# Altium footprint library JST SM02B-SURS-TF.PCBLIB: 1 footprints
Each footprint in its own frame and in the unit in brackets; x right, y up, seen from the top. Pads: shape width x height; smd on the part's side, far side on the other; paste and mask are expansions set on the pad; w line width, h text height; cw(c..) or ccw(c..) is an arc to the next point about the centre after c.
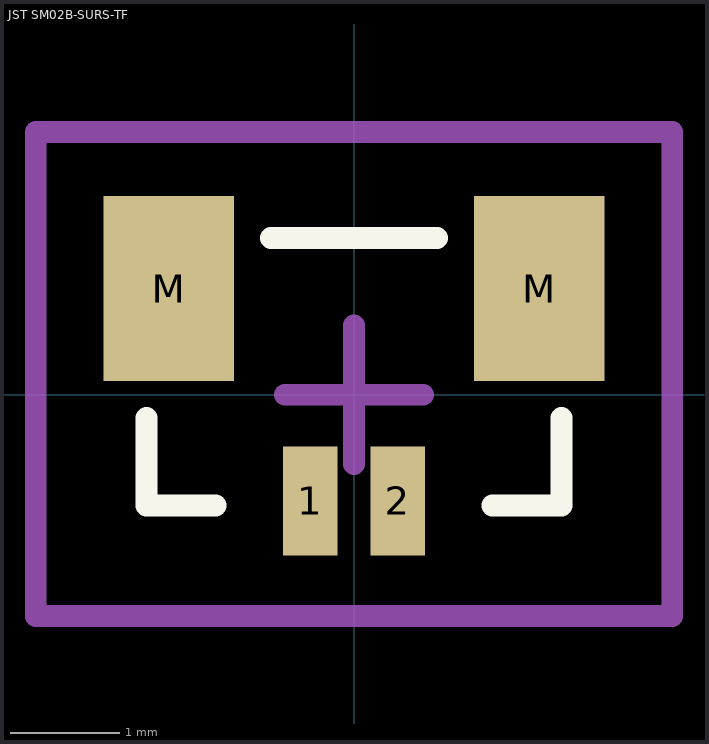
[diagram p0: the footprint, top view; thin cyan lines are the x and y axes]

## JST SM02B-SURS-TF [mm] "1.0mm pitch/Disconnectable Crimp style connector"
height 2.95
pads (4):
  rect 0.5x1 smd: 1(-0.4,-0.975) 2(0.4,-0.975)
  rect 1.2x1.7 smd: M(-1.7,0.975) M(1.7,0.975)
Top Overlay:
  lines w0.2: -1.905,-0.213 -1.905,-1.016 -1.27,-1.016 ; -0.762,1.438 0.762,1.438 ; 1.27,-1.016 1.905,-1.016 1.905,-0.213
Mechanical 15:
  lines w0.2: -0.635,0 0.635,0 ; 0,-0.635 0,0.635 ; -2.921,-2.032 2.921,-2.032 2.921,2.413 -2.921,2.413 -2.921,-2.032
3D body "JST SM02B-SURS-TF.STEP": height 1.75, standoff 0, extent -1.9,-1.262 1.9,1.438